# Altium footprint library Daxxn_Packages.PcbLib: 84 footprints (part 5 of 6)
Each footprint in its own frame and in the unit in brackets; x right, y up, seen from the top. Pads: shape width x height; smd on the part's side, far side on the other; paste and mask are expansions set on the pad; w line width, h text height; cw(c..) or ccw(c..) is an arc to the next point about the centre after c.
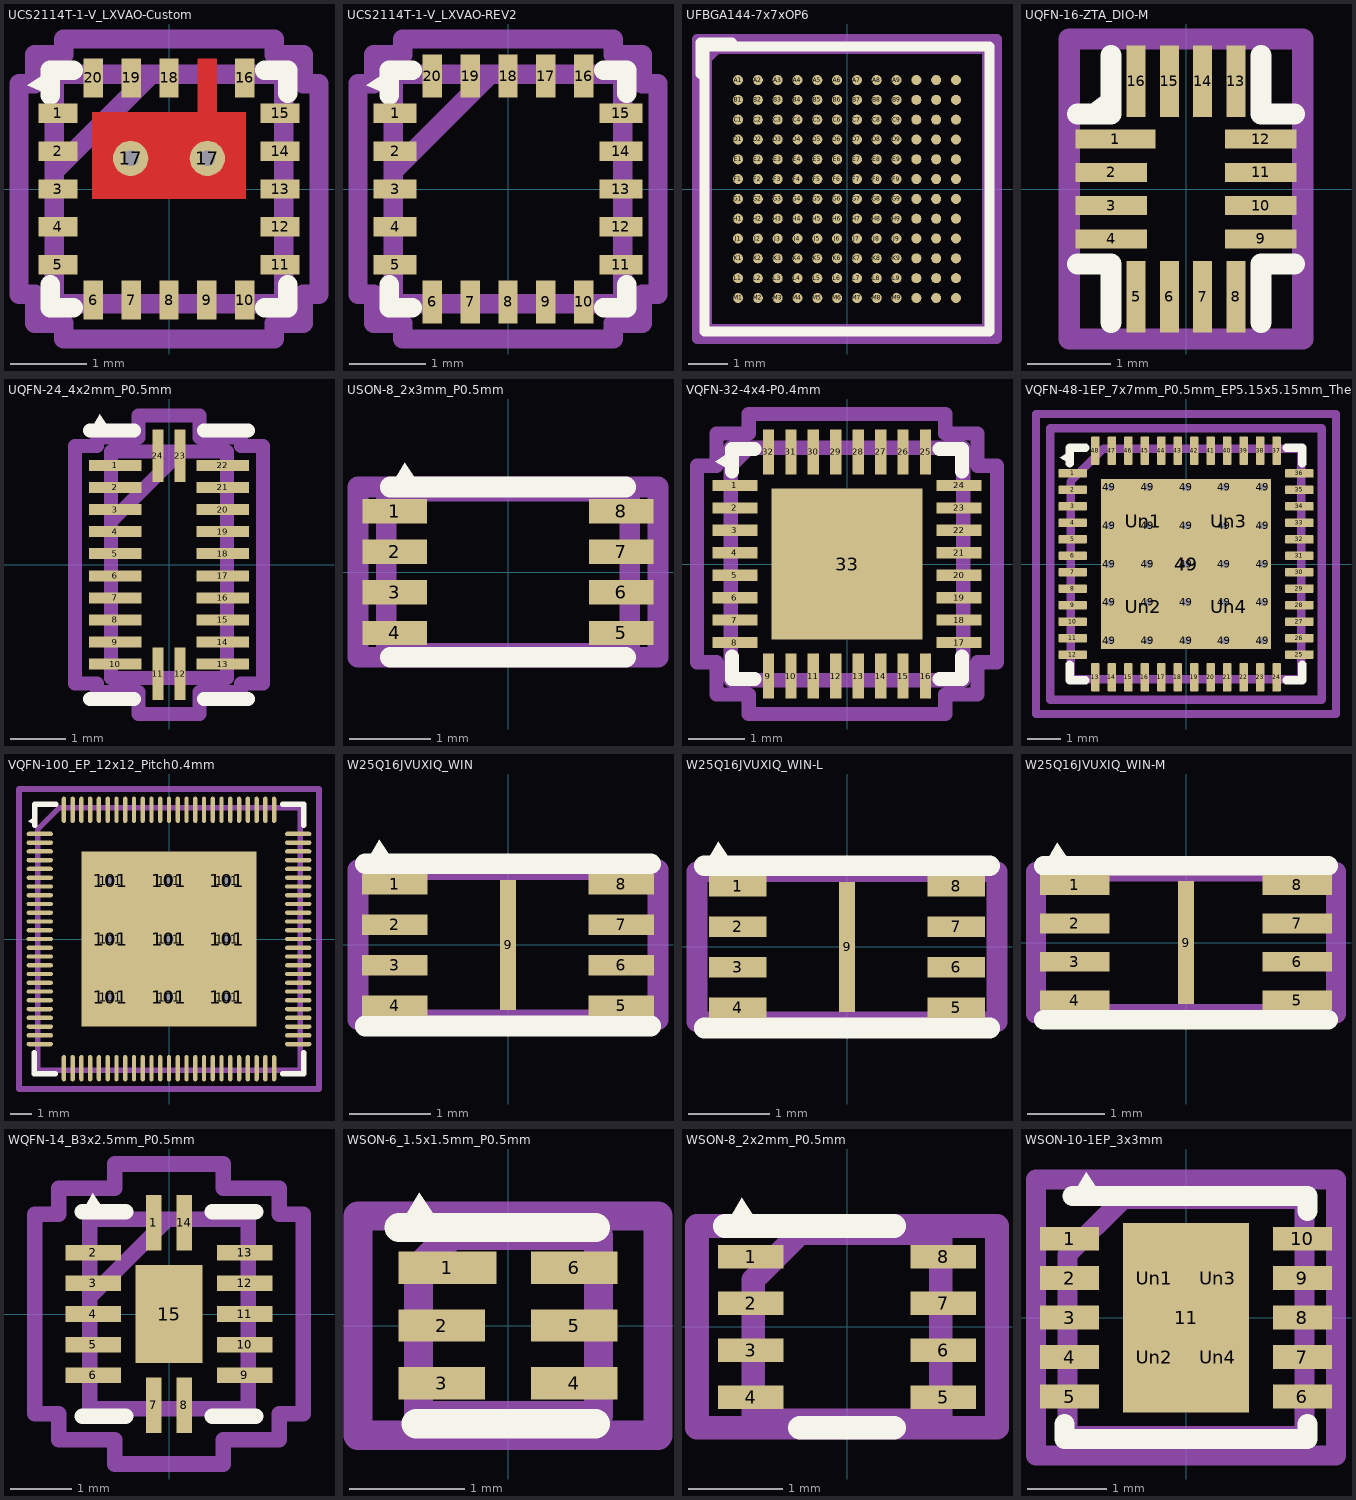
[diagram p4: the footprints below, top view; thin cyan lines are the x and y axes]

## UCS2114T-1-V_LXVAO-Custom [mil]
pads (22):
  rect 20x10 smd: 1(-57,39) 2(-57,19.5) 3(-57,0) 4(-57,-19.5) 5(-57,-39) 11(57,-39) 12(57,-19.5) 13(57,0) 14(57,19.5) 15(57,39)
  rect 10x20 smd: 6(-39,-57) 7(-19.5,-57) 8(0,-57) 9(19.5,-57) 10(39,-57) 16(39,57) 18(0,57) 19(-19.5,57) 20(-39,57)
  round 18.11 hole 7.87: 17(-19.68,15.75) 17(19.68,15.75)
  rect 0.04x0.04 smd: 17(0,39.37)
F.Cu:
  region: 24.61,39.37 39.37,39.37 39.37,-5.12 -39.37,-5.12 -39.37,39.37 14.76,39.37 14.76,66.93 24.61,66.93
F.SilkS:
  region: -61.02,48.23 -72.83,53.15 -61.02,61.02
  lines w10: -61.02,-49.21 -61.02,-61.02 -49.21,-61.02 ; -61.02,48.23 -61.02,61.02 -49.21,61.02 ; 49.21,-61.02 61.02,-61.02 61.02,-49.21 ; 49.21,61.02 61.02,61.02 61.02,49.21
F.Paste:
  region: 29.53,1.97 -29.53,1.97 -29.53,29.53 29.53,29.53
  region: 24.61,46.85 14.76,46.85 14.76,66.93 24.61,66.93
  lines w10: -29.53,1.97 -29.53,29.53 29.53,29.53 29.53,1.97 -29.53,1.97 ; 14.76,46.85 14.76,66.93 24.61,66.93 24.61,46.85 14.76,46.85
F.Mask:
  region: 24.5,39.25 39.5,39.25 39.5,-5.25 -39.5,-5.25 -39.5,39.25 14.5,39.25 14.5,67 24.5,67
  region: 24.61,39.37 39.37,39.37 39.37,-5.12 -39.37,-5.12 -39.37,39.37 14.76,39.37 14.76,66.93 24.61,66.93
F.CrtYd:
  lines w10: -77,-54 -77,54 -69,54 -69,69 -54,69 -54,77 54,77 54,69 69,69 69,54 77,54 77,-54 69,-54 69,-69 54,-69 54,-77 -54,-77 -54,-69 -69,-69 -69,-54 -77,-54
F.Fab:
  lines w10: -59,9 -9,59 ; -59,-59 -59,59 59,59 59,-59 -59,-59
  text "'.Designator'" at -40.81,-1.38 h9.84

## UCS2114T-1-V_LXVAO-REV2 [mil]
pads (20):
  rect 21.97x10 smd: 1(-57.98,39) 2(-57.98,19.5) 3(-57.98,0) 4(-57.98,-19.5) 5(-57.98,-39) 11(57.98,-39) 12(57.98,-19.5) 13(57.98,0) 14(57.98,19.5) 15(57.98,39)
  rect 10x21.97 smd: 6(-39,-57.98) 7(-19.5,-57.98) 8(0,-57.98) 9(19.5,-57.98) 10(39,-57.98) 16(39,57.98) 17(19.5,57.98) 18(0,57.98) 19(-19.5,57.98) 20(-39,57.98)
F.SilkS:
  region: -61.02,48.23 -72.83,53.15 -61.02,61.02
  lines w10: -61.02,-49.21 -61.02,-61.02 -49.21,-61.02 ; -61.02,48.23 -61.02,61.02 -49.21,61.02 ; 49.21,-61.02 61.02,-61.02 61.02,-49.21 ; 49.21,61.02 61.02,61.02 61.02,49.21
F.CrtYd:
  lines w10: -77,-54 -77,54 -69,54 -69,69 -54,69 -54,77 54,77 54,69 69,69 69,54 77,54 77,-54 69,-54 69,-69 54,-69 54,-77 -54,-77 -54,-69 -69,-69 -69,-54 -77,-54
F.Fab:
  lines w10: -59,9 -9,59 ; -59,-59 -59,59 59,59 59,-59 -59,-59
  text "'.Designator'" at -40.81,-1.38 h9.84

## UFBGA144-7x7xOP6 [mm]
pads (144):
  round 0.254 smd: A1(-2.75,2.75) A2(-2.25,2.75) A3(-1.75,2.75) A4(-1.25,2.75) A5(-0.75,2.75) A6(-0.25,2.75) A7(0.25,2.75) A8(0.75,2.75) A9(1.25,2.75) A10(1.75,2.75) A11(2.25,2.75) A12(2.75,2.75) B1(-2.75,2.25) B2(-2.25,2.25) B3(-1.75,2.25) B4(-1.25,2.25) B5(-0.75,2.25) B6(-0.25,2.25) B7(0.25,2.25) B8(0.75,2.25) B9(1.25,2.25) B10(1.75,2.25) B11(2.25,2.25) B12(2.75,2.25) C1(-2.75,1.75) C2(-2.25,1.75) C3(-1.75,1.75) C4(-1.25,1.75) C5(-0.75,1.75) C6(-0.25,1.75) C7(0.25,1.75) C8(0.75,1.75) C9(1.25,1.75) C10(1.75,1.75) C11(2.25,1.75) C12(2.75,1.75) D1(-2.75,1.25) D2(-2.25,1.25) D3(-1.75,1.25) D4(-1.25,1.25) D5(-0.75,1.25) D6(-0.25,1.25) D7(0.25,1.25) D8(0.75,1.25) D9(1.25,1.25) D10(1.75,1.25) D11(2.25,1.25) D12(2.75,1.25) E1(-2.75,0.75) E2(-2.25,0.75) E3(-1.75,0.75) E4(-1.25,0.75) E5(-0.75,0.75) E6(-0.25,0.75) E7(0.25,0.75) E8(0.75,0.75) E9(1.25,0.75) E10(1.75,0.75) E11(2.25,0.75) E12(2.75,0.75) F1(-2.75,0.25) F2(-2.25,0.25) F3(-1.75,0.25) F4(-1.25,0.25) F5(-0.75,0.25) F6(-0.25,0.25) F7(0.25,0.25) F8(0.75,0.25) F9(1.25,0.25) F10(1.75,0.25) F11(2.25,0.25) F12(2.75,0.25) G1(-2.75,-0.25) G2(-2.25,-0.25) G3(-1.75,-0.25) G4(-1.25,-0.25) G5(-0.75,-0.25) G6(-0.25,-0.25) G7(0.25,-0.25) G8(0.75,-0.25) G9(1.25,-0.25) G10(1.75,-0.25) G11(2.25,-0.25) G12(2.75,-0.25) H1(-2.75,-0.75) H2(-2.25,-0.75) H3(-1.75,-0.75) H4(-1.25,-0.75) H5(-0.75,-0.75) H6(-0.25,-0.75) H7(0.25,-0.75) H8(0.75,-0.75) H9(1.25,-0.75) H10(1.75,-0.75) H11(2.25,-0.75) H12(2.75,-0.75) J1(-2.75,-1.25) J2(-2.25,-1.25) J3(-1.75,-1.25) J4(-1.25,-1.25) J5(-0.75,-1.25) J6(-0.25,-1.25) J7(0.25,-1.25) J8(0.75,-1.25) J9(1.25,-1.25) J10(1.75,-1.25) J11(2.25,-1.25) J12(2.75,-1.25) K1(-2.75,-1.75) K2(-2.25,-1.75) K3(-1.75,-1.75) K4(-1.25,-1.75) K5(-0.75,-1.75) K6(-0.25,-1.75) K7(0.25,-1.75) K8(0.75,-1.75) K9(1.25,-1.75) K10(1.75,-1.75) K11(2.25,-1.75) K12(2.75,-1.75) L1(-2.75,-2.25) L2(-2.25,-2.25) L3(-1.75,-2.25) L4(-1.25,-2.25) L5(-0.75,-2.25) L6(-0.25,-2.25) L7(0.25,-2.25) L8(0.75,-2.25) L9(1.25,-2.25) L10(1.75,-2.25) L11(2.25,-2.25) L12(2.75,-2.25) M1(-2.75,-2.75) M2(-2.25,-2.75) M3(-1.75,-2.75) M4(-1.25,-2.75) M5(-0.75,-2.75) M6(-0.25,-2.75) M7(0.25,-2.75) M8(0.75,-2.75) M9(1.25,-2.75) M10(1.75,-2.75) M11(2.25,-2.75) M12(2.75,-2.75)
F.SilkS:
  lines w0.254: -3.7,2.9 -3.7,3.7 -2.9,3.7 ; -3.6,-3.6 -3.6,3.6 3.6,3.6 3.6,-3.6 -3.6,-3.6
F.CrtYd:
  lines w0.254: -3.785,-3.785 -3.785,3.785 3.785,3.785 3.785,-3.785 -3.785,-3.785
F.Fab:
  lines w0.254: -3.531,3.281 -3.281,3.531 ; -3.531,-3.531 -3.531,3.531 3.531,3.531 3.531,-3.531 -3.531,-3.531
  text "'.Designator'" at -2.011,0.042 h0.5

## UQFN-16-ZTA_DIO-M [mm]
pads (16):
  rect 0.959x0.229 smd: 1(-0.848,0.6)
  rect 0.857x0.229 smd: 2(-0.898,0.2) 3(-0.898,-0.2) 4(-0.898,-0.6) 9(0.898,-0.6) 10(0.898,-0.2) 11(0.898,0.2) 12(0.898,0.6)
  rect 0.229x0.857 smd: 5(-0.6,-1.292) 6(-0.2,-1.292) 7(0.2,-1.292) 8(0.6,-1.292) 13(0.6,1.292) 14(0.2,1.292) 15(-0.2,1.292) 16(-0.6,1.292)
F.SilkS:
  region: -0.9,0.9 -1.3,0.9 -0.9,1.2
  lines w0.254: -1.3,-0.9 -0.9,-0.9 -0.9,-1.6 ; -1.3,0.9 -0.9,0.9 -0.9,1.6 ; 0.9,-1.6 0.9,-0.9 1.3,-0.9 ; 0.9,1.6 0.9,0.9 1.3,0.9
F.CrtYd:
  lines w0.254: -1.4,-1.8 -1.4,1.8 1.4,1.8 1.4,-1.8 -1.4,-1.8
F.Fab:
  text "'.Designator'" at -1.037,-0.035 h0.25

## UQFN-24_4x2mm_P0.5mm [mm]
pads (24):
  rect 0.95x0.2 smd: 1(-0.975,1.8) 2(-0.975,1.4) 3(-0.975,1) 4(-0.975,0.6) 5(-0.975,0.2) 6(-0.975,-0.2) 7(-0.975,-0.6) 8(-0.975,-1) 9(-0.975,-1.4) 10(-0.975,-1.8) 13(0.975,-1.8) 14(0.975,-1.4) 15(0.975,-1) 16(0.975,-0.6) 17(0.975,-0.2) 18(0.975,0.2) 19(0.975,0.6) 20(0.975,1) 21(0.975,1.4) 22(0.975,1.8)
  rect 0.2x0.95 smd: 11(-0.2,-1.975) 12(0.2,-1.975) 23(0.2,1.975) 24(-0.2,1.975)
F.SilkS:
  region: -1.056,2.431 -1.431,2.431 -1.256,2.731
  lines w0.254: -1.431,-2.431 -0.633,-2.431 ; -1.431,2.431 -0.633,2.431 ; 0.633,-2.431 1.431,-2.431 ; 0.633,2.431 1.431,2.431
F.CrtYd:
  lines w0.254: -1.704,-2.154 -1.704,2.154 -1.304,2.154 -1.304,2.304 -0.554,2.304 -0.554,2.704 0.554,2.704 0.554,2.304 1.304,2.304 1.304,2.154 1.704,2.154 1.704,-2.154 1.304,-2.154 1.304,-2.304 0.554,-2.304 0.554,-2.704 -0.554,-2.704 -0.554,-2.304 -1.304,-2.304 -1.304,-2.154 -1.704,-2.154
F.Fab:
  lines w0.254: -1.05,0.78 0.22,2.05 ; -1.05,-2.05 -1.05,2.05 1.05,2.05 1.05,-2.05 -1.05,-2.05
  text "'.Designator'" at -0.015,-1.037 h0.25

## USON-8_2x3mm_P0.5mm [mm]
pads (8):
  rect 0.8x0.3 smd: 1(-1.396,0.75) 2(-1.396,0.25) 3(-1.396,-0.25) 4(-1.396,-0.75) 5(1.396,-0.75) 6(1.396,-0.25) 7(1.396,0.25) 8(1.396,0.75)
F.SilkS:
  region: -1.075,1.05 -1.45,1.05 -1.275,1.35
  lines w0.254: -1.45,-1.05 1.45,-1.05 ; -1.45,1.05 1.45,1.05
F.CrtYd:
  lines w0.254: -1.85,-1.05 -1.85,1.05 1.85,1.05 1.85,-1.05 -1.85,-1.05
F.Fab:
  lines w0.254: -1.5,-1 -1.5,1 1.5,1 1.5,-1 -1.5,-1
  text "'.Designator'" at -0.829,0.012 h0.2

## VQFN-32-4x4-P0.4mm [mm]
pads (33):
  rect 0.8x0.2 smd: 1(-2,1.4) 2(-2,1) 3(-2,0.6) 4(-2,0.2) 5(-2,-0.2) 6(-2,-0.6) 7(-2,-1) 8(-2,-1.4) 17(2,-1.4) 18(2,-1) 19(2,-0.6) 20(2,-0.2) 21(2,0.2) 22(2,0.6) 23(2,1) 24(2,1.4)
  rect 0.2x0.8 smd: 9(-1.4,-2) 10(-1,-2) 11(-0.6,-2) 12(-0.2,-2) 13(0.2,-2) 14(0.6,-2) 15(1,-2) 16(1.4,-2) 25(1.4,2) 26(1,2) 27(0.6,2) 28(0.2,2) 29(-0.2,2) 30(-0.6,2) 31(-1,2) 32(-1.4,2)
  rect 2.7x2.7 smd: 33(0,0)
F.SilkS:
  region: -2.05,1.65 -2.35,1.825 -2.05,2.025
  lines w0.254: -2.05,-1.65 -2.05,-2.05 -1.65,-2.05 ; -2.05,1.65 -2.05,2.05 -1.65,2.05 ; 1.65,-2.05 2.05,-2.05 2.05,-1.65 ; 1.65,2.05 2.05,2.05 2.05,1.65
F.Paste:
  region: -0.275,0.275 -1.025,0.275 -1.025,1.025 -0.275,1.025
  region: -0.275,-1.025 -1.025,-1.025 -1.025,-0.275 -0.275,-0.275
  region: 1.025,0.275 0.275,0.275 0.275,1.025 1.025,1.025
  region: 1.025,-1.025 0.275,-1.025 0.275,-0.275 1.025,-0.275
  lines w0.254: -1.025,-1.025 -1.025,-0.275 -0.275,-0.275 -0.275,-1.025 -1.025,-1.025 ; -1.025,0.275 -1.025,1.025 -0.275,1.025 -0.275,0.275 -1.025,0.275 ; 0.275,-1.025 0.275,-0.275 1.025,-0.275 1.025,-1.025 0.275,-1.025 ; 0.275,0.275 1.025,0.275 1.025,1.025 0.275,1.025 0.275,0.275
F.CrtYd:
  lines w0.254: -2.675,-1.754 -2.675,1.754 -2.329,1.754 -2.329,2.329 -1.754,2.329 -1.754,2.675 1.754,2.675 1.754,2.329 2.329,2.329 2.329,1.754 2.675,1.754 2.675,-1.754 2.329,-1.754 2.329,-2.329 1.754,-2.329 1.754,-2.675 -1.754,-2.675 -1.754,-2.329 -2.329,-2.329 -2.329,-1.754 -2.675,-1.754
F.Fab:
  lines w0.254: -2.075,1.75 -1.75,2.075 ; -2.075,-2.075 -2.075,2.075 2.075,2.075 2.075,-2.075 -2.075,-2.075
  text "'.Designator'" at -1.037,0.015 h0.25

## VQFN-48-1EP_7x7mm_P0.5mm_EP5.15x5.15mm_ThermalVias [mm]
pads (79):
  rrect25% 0.875x0.25 smd: 1(-3.437,2.75) 2(-3.437,2.25) 3(-3.437,1.75) 4(-3.437,1.25) 5(-3.437,0.75) 6(-3.437,0.25) 7(-3.437,-0.25) 8(-3.437,-0.75) 9(-3.437,-1.25) 10(-3.437,-1.75) 11(-3.437,-2.25) 12(-3.437,-2.75) 25(3.437,-2.75) 26(3.437,-2.25) 27(3.437,-1.75) 28(3.437,-1.25) 29(3.437,-0.75) 30(3.437,-0.25) 31(3.437,0.25) 32(3.437,0.75) 33(3.437,1.25) 34(3.437,1.75) 35(3.437,2.25) 36(3.437,2.75)
  rrect25% 0.25x0.875 smd: 13(-2.75,-3.437) 14(-2.25,-3.437) 15(-1.75,-3.437) 16(-1.25,-3.437) 17(-0.75,-3.437) 18(-0.25,-3.437) 19(0.25,-3.437) 20(0.75,-3.437) 21(1.25,-3.437) 22(1.75,-3.437) 23(2.25,-3.437) 24(2.75,-3.437) 37(2.75,3.437) 38(2.25,3.437) 39(1.75,3.437) 40(1.25,3.437) 41(0.75,3.437) 42(0.25,3.437) 43(-0.25,3.437) 44(-0.75,3.437) 45(-1.25,3.437) 46(-1.75,3.437) 47(-2.25,3.437) 48(-2.75,3.437)
  round 0.5 hole 0.2: 49(-2.325,-2.325) 49(-2.325,-1.162) 49(-2.325,0) 49(-2.325,1.162) 49(-2.325,2.325) 49(-1.162,-2.325) 49(-1.162,-1.162) 49(-1.162,0) 49(-1.162,1.162) 49(-1.162,2.325) 49(0,-2.325) 49(0,-1.162) 49(0,0) 49(0,1.162) 49(0,2.325) 49(1.162,-2.325) 49(1.162,-1.162) 49(1.162,0) 49(1.162,1.162) 49(1.162,2.325) 49(2.325,-2.325) 49(2.325,-1.162) 49(2.325,0) 49(2.325,1.162) 49(2.325,2.325)
  rect 5.15x5.15 smd: 49(0,0)
  rect 5.15x5.15 smd far side: 49(0,0)
  rrect12% 1.8x1.8 on Top Paste: Un1(-1.29,1.29) Un2(-1.29,-1.29) Un3(1.29,1.29) Un4(1.29,-1.29)
F.SilkS:
  region: -3.525,3.05 -3.825,3.225 -3.525,3.425
  lines w0.254: -3.525,-3.05 -3.525,-3.525 -3.05,-3.525 ; -3.525,3.05 -3.525,3.525 -3.05,3.525 ; 3.05,-3.525 3.525,-3.525 3.525,-3.05 ; 3.05,3.525 3.525,3.525 3.525,3.05
Margin:
  lines w0.254: -4.55,-4.55 -4.55,4.55 4.55,4.55 4.55,-4.55 -4.55,-4.55
F.CrtYd:
  lines w0.254: -4.12,-4.12 -4.12,4.12 4.12,4.12 4.12,-4.12 -4.12,-4.12
F.Fab:
  lines w0.254: -3.5,-3.5 -3.5,2.5 -2.5,3.5 3.5,3.5 3.5,-3.5 -3.5,-3.5
  text "'.Designator'" at -1.037,-0.235 h0.25

## VQFN-100_EP_12x12_Pitch0.4mm [mm]
pads (118):
  rrect100% 1.2x0.2 smd: 1(-5.9,4.8) 2(-5.9,4.4) 3(-5.9,4) 4(-5.9,3.6) 5(-5.9,3.2) 6(-5.9,2.8) 7(-5.9,2.4) 8(-5.9,2) 9(-5.9,1.6) 10(-5.9,1.2) 11(-5.9,0.8) 12(-5.9,0.4) 13(-5.9,0) 14(-5.9,-0.4) 15(-5.9,-0.8) 16(-5.9,-1.2) 17(-5.9,-1.6) 18(-5.9,-2) 19(-5.9,-2.4) 20(-5.9,-2.8) 21(-5.9,-3.2) 22(-5.9,-3.6) 23(-5.9,-4) 24(-5.9,-4.4) 25(-5.9,-4.8) 51(5.9,-4.8) 52(5.9,-4.4) 53(5.9,-4) 54(5.9,-3.6) 55(5.9,-3.2) 56(5.9,-2.8) 57(5.9,-2.4) 58(5.9,-2) 59(5.9,-1.6) 60(5.9,-1.2) 61(5.9,-0.8) 62(5.9,-0.4) 63(5.9,0) 64(5.9,0.4) 65(5.9,0.8) 66(5.9,1.2) 67(5.9,1.6) 68(5.9,2) 69(5.9,2.4) 70(5.9,2.8) 71(5.9,3.2) 72(5.9,3.6) 73(5.9,4) 74(5.9,4.4) 75(5.9,4.8)
  rrect100% 0.2x1.2 smd: 26(-4.8,-5.9) 27(-4.4,-5.9) 28(-4,-5.9) 29(-3.6,-5.9) 30(-3.2,-5.9) 31(-2.8,-5.9) 32(-2.4,-5.9) 33(-2,-5.9) 34(-1.6,-5.9) 35(-1.2,-5.9) 36(-0.8,-5.9) 37(-0.4,-5.9) 38(0,-5.9) 39(0.4,-5.9) 40(0.8,-5.9) 41(1.2,-5.9) 42(1.6,-5.9) 43(2,-5.9) 44(2.4,-5.9) 45(2.8,-5.9) 46(3.2,-5.9) 47(3.6,-5.9) 48(4,-5.9) 49(4.4,-5.9) 50(4.8,-5.9) 76(4.8,5.9) 77(4.4,5.9) 78(4,5.9) 79(3.6,5.9) 80(3.2,5.9) 81(2.8,5.9) 82(2.4,5.9) 83(2,5.9) 84(1.6,5.9) 85(1.2,5.9) 86(0.8,5.9) 87(0.4,5.9) 88(0,5.9) 89(-0.4,5.9) 90(-0.8,5.9) 91(-1.2,5.9) 92(-1.6,5.9) 93(-2,5.9) 94(-2.4,5.9) 95(-2.8,5.9) 96(-3.2,5.9) 97(-3.6,5.9) 98(-4,5.9) 99(-4.4,5.9) 100(-4.8,5.9)
  round 1.333 hole 0.4: 101(-2.667,-2.667) 101(-2.667,0) 101(-2.667,2.667) 101(0,-2.667) 101(0,0) 101(0,2.667) 101(2.667,-2.667) 101(2.667,0) 101(2.667,2.667)
  rect 2.667x2.667 smd: 101(-2.667,-2.667) 101(-2.667,0) 101(-2.667,2.667) 101(0,-2.667) 101(0,0) 101(0,2.667) 101(2.667,-2.667) 101(2.667,0) 101(2.667,2.667)
F.SilkS:
  region: -6.125,5.2 -6.425,5.375 -6.125,5.575
  lines w0.254: -6.15,-5.2 -6.15,-6.15 -5.2,-6.15 ; -6.125,5.2 -6.125,6.15 -5.175,6.15 ; 5.2,-6.15 6.15,-6.15 6.15,-5.2 ; 5.2,6.15 6.15,6.15 6.15,5.2
F.CrtYd:
  lines w0.254: -6.85,-6.85 -6.85,6.85 6.85,6.85 6.85,-6.85 -6.85,-6.85
F.Fab:
  lines w0.254: -6,-6 -6,5 -5,6 6,6 6,-6 -6,-6

## W25Q16JVUXIQ_WIN [mm]
pads (9):
  rect 0.808x0.255 smd: 1(-1.396,0.75) 2(-1.396,0.25) 3(-1.396,-0.25) 4(-1.396,-0.75) 5(1.396,-0.75) 6(1.396,-0.25) 7(1.396,0.25) 8(1.396,0.75)
  rect 0.203x1.6 smd: 9(0,0)
F.SilkS:
  region: -1.388,1 -1.763,1 -1.587,1.3
  lines w0.254: -1.763,-1 1.763,-1 ; -1.763,1 1.763,1
F.CrtYd:
  lines w0.254: -1.85,-0.925 -1.85,0.925 1.85,0.925 1.85,-0.925 -1.85,-0.925
F.Fab:
  text "'.Designator'" at -1.037,-0.01 h0.25

## W25Q16JVUXIQ_WIN-L [mm]
pads (9):
  rect 0.708x0.255 smd: 1(-1.346,0.75) 2(-1.346,0.25) 3(-1.346,-0.25) 4(-1.346,-0.75) 5(1.346,-0.75) 6(1.346,-0.25) 7(1.346,0.25) 8(1.346,0.75)
  rect 0.203x1.6 smd: 9(0,0)
F.SilkS:
  region: -1.388,1 -1.763,1 -1.587,1.3
  lines w0.254: -1.763,-1 1.763,-1 ; -1.763,1 1.763,1
F.CrtYd:
  lines w0.254: -1.85,-0.925 -1.85,0.925 1.85,0.925 1.85,-0.925 -1.85,-0.925
F.Fab:
  text "'.Designator'" at -1.037,-0.01 h0.25

## W25Q16JVUXIQ_WIN-M [mm]
pads (9):
  rect 0.908x0.255 smd: 1(-1.446,0.75) 2(-1.446,0.25) 3(-1.446,-0.25) 4(-1.446,-0.75) 5(1.446,-0.75) 6(1.446,-0.25) 7(1.446,0.25) 8(1.446,0.75)
  rect 0.203x1.6 smd: 9(0,0)
F.SilkS:
  region: -1.475,1 -1.85,1 -1.675,1.3
  lines w0.254: -1.85,-1 1.85,-1 ; -1.85,1 1.85,1
F.CrtYd:
  lines w0.254: -1.95,-0.925 -1.95,0.925 1.95,0.925 1.95,-0.925 -1.95,-0.925
F.Fab:
  text "'.Designator'" at -1.037,0.015 h0.25

## WQFN-14_B3x2.5mm_P0.5mm [mil]
pads (15):
  rect 10.03x35.75 smd: 1(-9.85,58.87) 7(-9.85,-58.87) 8(9.85,-58.87) 14(9.85,58.87)
  rect 35.75x10.03 smd: 2(-48.87,39.38) 3(-48.87,19.69) 4(-48.87,0) 5(-48.87,-19.69) 6(-48.87,-39.38) 9(48.87,-39.38) 10(48.87,-19.69) 11(48.87,0) 12(48.87,19.69) 13(48.87,39.38)
  rect 43x63 smd: 15(0,0)
F.SilkS:
  region: -41.24,66 -56,66 -49.11,77.81
  lines w10: -56,-66 -27.96,-66 ; -56,66 -27.96,66 ; 27.96,-66 56,-66 ; 27.96,66 56,66
F.CrtYd:
  lines w10: -86.75,-64.4 -86.75,64.4 -71,64.4 -71,81 -34.86,81 -34.86,96.75 34.86,96.75 34.86,81 71,81 71,64.4 86.75,64.4 86.75,-64.4 71,-64.4 71,-81 34.86,-81 34.86,-96.75 -34.86,-96.75 -34.86,-81 -71,-81 -71,-64.4 -86.75,-64.4
F.Fab:
  lines w10: -51,11 -1,61 ; -51,-61 -51,61 51,61 51,-61 -51,-61 ; -51,-45.38 -51,-33.38 -51,-45.38 ; -51,-25.69 -51,-13.69 -51,-25.69 ; -51,-6 -51,6 -51,-6 ; -51,13.69 -51,25.69 -51,13.69 ; -51,33.38 -51,45.38 -51,33.38 ; -15.85,-61 -3.85,-61 -15.85,-61 ; -15.85,61 -3.85,61 -15.85,61 ; 3.85,-61 15.85,-61 3.85,-61 ; 3.85,61 15.85,61 3.85,61 ; 51,-45.38 51,-33.38 51,-45.38 ; 51,-25.69 51,-13.69 51,-25.69 ; 51,-6 51,6 51,-6 ; 51,13.69 51,25.69 51,13.69 ; 51,33.38 51,45.38 51,33.38
  text "'.Designator'" at -40.81,2.56 h9.84

## WSON-6_1.5x1.5mm_P0.5mm [mm]
pads (6):
  rect 0.85x0.28 smd: 1(-0.525,0.5)
  rect 0.75x0.28 smd: 2(-0.575,0) 3(-0.575,-0.5) 4(0.575,-0.5) 5(0.575,0) 6(0.575,0.5)
F.SilkS:
  region: -0.57,0.85 -0.945,0.85 -0.77,1.15
  lines w0.254: -0.945,0.85 0.755,0.85 ; -0.795,-0.85 0.755,-0.85
F.CrtYd:
  lines w0.254: -1.3,-0.95 -1.3,0.95 1.3,0.95 1.3,-0.95 -1.3,-0.95
F.Fab:
  lines w0.254: -0.775,-0.78 -0.775,0.5 -0.495,0.78 0.785,0.78 0.785,-0.78 -0.775,-0.78
  text "'.Designator'" at -1.032,-0.035 h0.25

## WSON-8_2x2mm_P0.5mm [mm]
pads (8):
  rect 0.7x0.25 smd: 1(-1.025,0.75) 2(-1.025,0.25) 3(-1.025,-0.25) 4(-1.025,-0.75) 5(1.025,-0.75) 6(1.025,-0.25) 7(1.025,0.25) 8(1.025,0.75)
F.SilkS:
  region: -0.925,1.075 -1.3,1.075 -1.125,1.375
  lines w0.254: -1.3,1.075 0.5,1.075 ; -0.5,-1.075 0.5,-1.075
F.CrtYd:
  lines w0.254: -1.6,-1.075 -1.6,1.075 1.6,1.075 1.6,-1.075 -1.6,-1.075
F.Fab:
  lines w0.254: -1,-1 -1,0.5 -0.5,1 1,1 1,-1 -1,-1
  text "'.Designator'" at -0.015,-1.037 h0.25

## WSON-10-1EP_3x3mm [mm]
pads (15):
  rect 0.75x0.3 smd: 1(-1.475,1) 2(-1.475,0.5) 3(-1.475,0) 4(-1.475,-0.5) 5(-1.475,-1) 6(1.475,-1) 7(1.475,-0.5) 8(1.475,0) 9(1.475,0.5) 10(1.475,1)
  rect 1.6x2.4 smd: 11(0,0)
  rect 0.59x0.8 on Top Paste: Un1(-0.405,0.5) Un2(-0.405,-0.5) Un3(0.405,0.5) Un4(0.405,-0.5)
F.SilkS:
  region: -1.065,1.54 -1.44,1.54 -1.265,1.84
  lines w0.254: -1.54,-1.35 -1.54,-1.54 1.54,-1.54 1.54,-1.35 ; -1.44,1.54 1.54,1.54 1.54,1.35
F.CrtYd:
  lines w0.254: -1.9,-1.75 -1.9,1.75 1.9,1.75 1.9,-1.75 -1.9,-1.75
F.Fab:
  lines w0.254: -1.5,-1.5 -1.5,0.8 -0.8,1.5 1.5,1.5 1.5,-1.5 -1.5,-1.5
  text "'.Designator'" at -1.037,-0.035 h0.25